# Altium schematic symbol library SparkFun-Passives.SCHLIB: 14 symbols
Pins are listed as number, name and electrical type; pins without a type are passive.

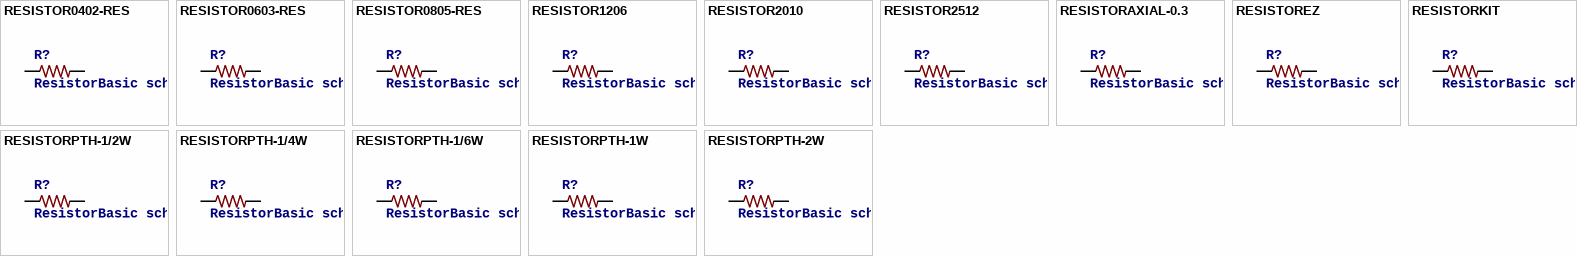
[diagram p0: symbols RESISTOR0402-RES to RESISTORPTH-2W]

## RESISTOR0402-RES
designator R?, comment ResistorBasic schematic elements and footprints for 0603, 1206, and PTH resistors.
footprint 0402-RES
pins: 1, 2

## RESISTOR0603-RES
designator R?, comment ResistorBasic schematic elements and footprints for 0603, 1206, and PTH resistors.
footprint 0603-RES
pins: 1, 2

## RESISTOR0805-RES
designator R?, comment ResistorBasic schematic elements and footprints for 0603, 1206, and PTH resistors.
footprint 0805
pins: 1, 2

## RESISTOR1206
designator R?, comment ResistorBasic schematic elements and footprints for 0603, 1206, and PTH resistors.
footprint 1206
pins: 1, 2

## RESISTOR2010
designator R?, comment ResistorBasic schematic elements and footprints for 0603, 1206, and PTH resistors.
footprint R2010
pins: 1, 2

## RESISTOR2512
designator R?, comment ResistorBasic schematic elements and footprints for 0603, 1206, and PTH resistors.
footprint R2512
pins: 1, 2

## RESISTORAXIAL-0.3
designator R?, comment ResistorBasic schematic elements and footprints for 0603, 1206, and PTH resistors.
footprint AXIAL-0.3
pins: P$1 1, P$2 2

## RESISTOREZ
designator R?, comment ResistorBasic schematic elements and footprints for 0603, 1206, and PTH resistors.
footprint AXIAL-0.3EZ
pins: P$1 1, P$2 2

## RESISTORKIT
designator R?, comment ResistorBasic schematic elements and footprints for 0603, 1206, and PTH resistors.
footprint AXIAL-0.3-KIT
pins: P$1 1, P$2 2

## RESISTORPTH-1/2W
designator R?, comment ResistorBasic schematic elements and footprints for 0603, 1206, and PTH resistors.
footprint AXIAL-0.5
pins: P$1 1, P$2 2

## RESISTORPTH-1/4W
designator R?, comment ResistorBasic schematic elements and footprints for 0603, 1206, and PTH resistors.
footprint AXIAL-0.4
pins: P$1 1, P$2 2

## RESISTORPTH-1/6W
designator R?, comment ResistorBasic schematic elements and footprints for 0603, 1206, and PTH resistors.
footprint 1/6W-RES
pins: 1, 2

## RESISTORPTH-1W
designator R?, comment ResistorBasic schematic elements and footprints for 0603, 1206, and PTH resistors.
footprint AXIAL-0.6
pins: P$1 1, P$2 2

## RESISTORPTH-2W
designator R?, comment ResistorBasic schematic elements and footprints for 0603, 1206, and PTH resistors.
footprint AXIAL-0.8
pins: P$1 1, P$2 2